# EAGLE library part FGPMMOPA6H (library FGPMMOPA6H)
GPS Standalone Module, 20-pin Source: Datasheet <https://cdn-shop.adafruit.com/datasheets/GlobalTop-FGPMMOPA6H-Datasheet-V0A.pdf>
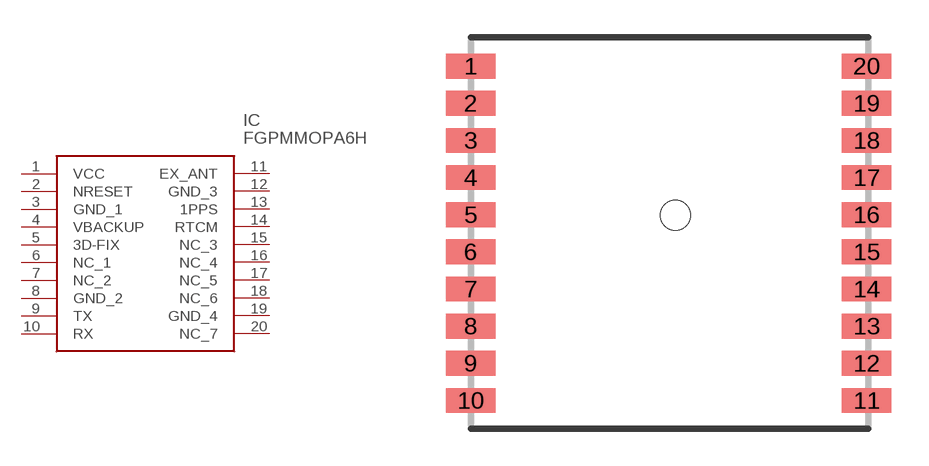
[diagram p0: symbol with the pads of FGPMMOPA6H; footprint FGPMMOPA6H]

Designator prefix IC

## FGPMMOPA6H (Description: GPS Standalone Module, 20-pin; Height: mm; Manufacturer_Name: GlobalTop Technology Inc.; Manufacturer_Part_Number: FGPMMOPA6H)  [FGPMMOPA6H]
1  VCC
2  NRESET
3  GND_1
4  VBACKUP
5  3D-FIX
6  NC_1
7  NC_2
8  GND_2
9  TX
10  RX
11  EX_ANT
12  GND_3
13  1PPS
14  RTCM
15  NC_3
16  NC_4
17  NC_5
18  NC_6
19  GND_4
20  NC_7

## Footprint FGPMMOPA6H (pad centres in mm)
FGPMMOPA6H
smd 2 x 1: 1 -16.07,-1.172; 2 -16.07,-2.672; 3 -16.07,-4.172; 4 -16.07,-5.672; 5 -16.07,-7.172; 6 -16.07,-8.672; 7 -16.07,-10.172; 8 -16.07,-11.672; 9 -16.07,-13.172; 10 -16.07,-14.672; 11 -0.07,-14.672; 12 -0.07,-13.172; 13 -0.07,-11.672; 14 -0.07,-10.172; 15 -0.07,-8.672; 16 -0.07,-7.172; 17 -0.07,-5.672; 18 -0.07,-4.172; 19 -0.07,-2.672; 20 -0.07,-1.172
hole 1.2 at -7.8,-7.2